# EAGLE library part BQ25504 (library custom)
Ultra Low-Power Boost Converter With Battery Management for Energy Harvester Applications 600mV Cold Start 0.33uA Iq 80mV Input Min 300mA Max
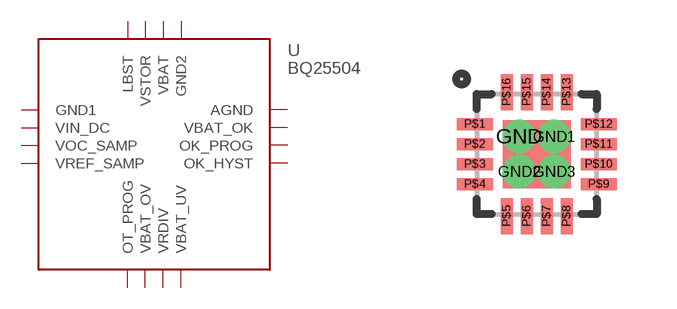
[diagram p143: symbol with the pads of 16-VQFN; footprint 16-VQFN]

Designator prefix U

## BQ25504  [16-VQFN]
GND  GND1
GND1  GND1
GND2  GND1
GND3  GND1
P$1  GND1
P$2  VIN_DC
P$3  VOC_SAMP
P$4  VREF_SAMP
P$5  OT_PROG
P$6  VBAT_OV
P$7  VRDIV
P$8  VBAT_UV
P$9  OK_HYST
P$10  OK_PROG
P$11  VBAT_OK
P$12  AGND
P$13  GND2
P$14  VBAT
P$15  VSTOR
P$16  LBST

## Footprint 16-VQFN (pad centres in mm)
drill 0.33: GND -0.438,0.438; GND1 0.438,0.438; GND2 -0.438,-0.438; GND3 0.438,-0.438
smd 0.9 x 0.3: P$1 -1.55,0.75; P$2 -1.55,0.25; P$3 -1.55,-0.25; P$4 -1.55,-0.75; P$9 1.55,-0.75; P$10 1.55,-0.25; P$11 1.55,0.25; P$12 1.55,0.75
smd 0.3 x 0.9: P$5 -0.75,-1.55; P$6 -0.25,-1.55; P$7 0.25,-1.55; P$8 0.75,-1.55; P$13 0.75,1.55; P$14 0.25,1.55; P$15 -0.25,1.55; P$16 -0.75,1.55